# Altium integrated library TI Data Converters Analog to Digital Converter.IntLib: 2197 symbols (part 30 of 168)
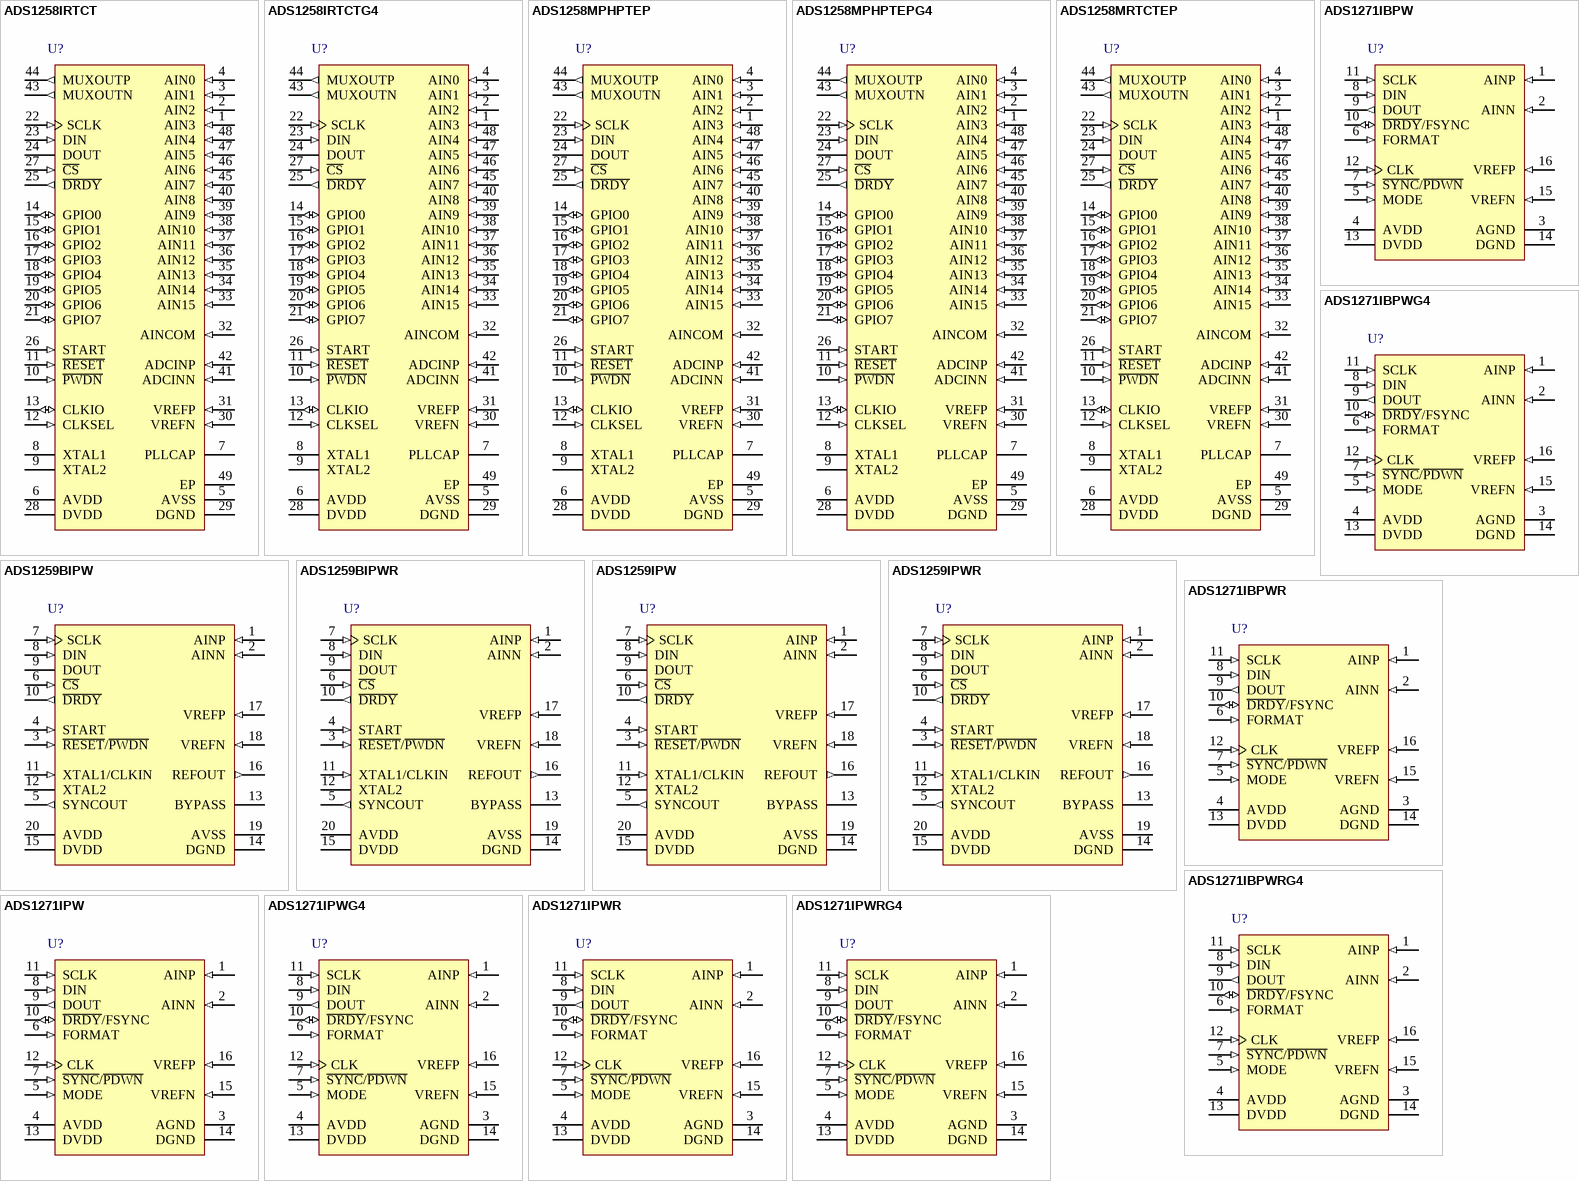
[diagram p155: symbols ADS1258IRTCT to ADS1271IPWRG4]

## ADS1258IRTCT
designator U?
24-Bit, Fast Channel Cycling Delta-Sigma ADC, -40 to 105 degC, 48-pin QFN (RTC48), Green (RoHS & no Sb/Br); Manufacturer: Texas Instruments; PartNumber: ADS1258IRTCT; # Input Channels: 16; Analog Voltage AV/DD(Max)(V): 5.25; Analog Voltage AV/DD(Min)(V): 4.75; Digital Supply(Min)(V): 2.7; ENOB(Bits): 21.6; Interface: Serial SPI; Resolution(Bits): 24; Sample Rate (max)(SPS): 125k; SubFamily: Precision ADC (<=10MSPS); DatasheetVersion: SBAS297G; PackageVersion: 4205143/D, 05/2011; PackageReference: RTC48-5100X5100TP; PackageDescription: 48-Pin Plastic Quad Flatpack No-Lead, Body 7 x 7 mm, Pitch 0.5 mm; Supplier 1: Digi-Key; Supplier Part Number 1: TLC3548CPWR-ND; Supplier 2: Mouser; Supplier Part Number 2: 595-TLC3548CPWR; Architecture: Delta-Sigma; Digital Supply(Max)(V): 5.25; Eco-Plan: Green (RoHS & no Sb/Br); Mounting Technology: Surface Mount; ComponentLink1Description: Manufacturer URL; ComponentLink1URL: http://www.ti.com/; ComponentLink2Description: Datasheet; ComponentLink2URL: http://www.ti.com/general/docs/lit/getliterature.tsp?genericPartNumber=ADS1258&fileType=pdf; ComponentLink3Description: Package Specification; ComponentLink3URL: http://www.ti.com/litv/pdf/mpqf140c
footprint TI-RTC48-5100X5100TP_V (QFN, 48-Leads, Body 7x7mm, Pitch 0.5mm, Thermal Pad 5.1x5.1mm, TI Recommended)
pins: 1 AIN3 (in) "Analog Input 3: Single-Ended Channel 3, Differential Channel 1 (-)", 2 AIN2 (in) "Analog Input 2: Single-Ended Channel 2, Differential Channel 1 (+)", 3 AIN1 (in) "Analog Input 1: Single-Ended Channel 1, Differential Channel 0 (-)", 4 AIN0 (in) "Analog Input 0: Single-Ended Channel 0, Differential Channel 0 (+)", 5 AVSS (power) "Negative Analog Power Supply: 0V for unipolar operation, -2.5V for bipolar operation. (Internally connected to exposed thermal pad of QFN package.)", 6 AVDD (power) "Positive Analog Power Supply: +5V for unipolar operation, +2.5V for bipolar operation.", 7 PLLCAP "PLL Bypass Capacitor: Connect 22nF capacitor to AVSS when using crystal oscillator.", 8 XTAL1 "32.768kHz Crystal Oscillator Input 1; see Crystal Oscillator section.", 9 XTAL2 "32.768kHz Crystal Oscillator Input 2; see Crystal Oscillator section.", 10 ~{PWDN} (in) "Power-Down Input: Hold low for minimum of two fCLK cycles to engage low-power mode.", 11 ~{RESET} (in) "Reset Input: Hold low for minimum of two fCLK cycles to reset the device.", 12 CLKSEL (in) "Clock Select Input: Low = Activates Crystal Oscillator, fCLK output on CLKIO. High = Disables Crystal Oscillator, apply fCLK to CLKIO.", 13 CLKIO (io) "System Clock Input/Output (See CLKSEL pin.)", 14 GPIO0 (io) "General-Purpose Digital Input/Output 0", 15 GPIO1 (io) "General-Purpose Digital Input/Output 1", 16 GPIO2 (io) "General-Purpose Digital Input/Output 2", 17 GPIO3 (io) "General-Purpose Digital Input/Output 3", 18 GPIO4 (io) "General-Purpose Digital Input/Output 4", 19 GPIO5 (io) "General-Purpose Digital Input/Output 5", 20 GPIO6 (io) "General-Purpose Digital Input/Output 6", 21 GPIO7 (io) "General-Purpose Digital Input/Output 7", 22 SCLK (in) "SPI Interface Clock Input: Data clocked in on rising edge, clocked out on falling edge.", 23 DIN (in) "SPI Interface Data Input: Data is input to the device.", 24 DOUT (hiz) "SPI Interface Data Output: Data is output from the device.", 25 ~{DRDY} (out) "Data Ready Output: Active low.", 26 START (in) "Start Conversion Input: Active high.", 27 ~{CS} (in) "SPI Interface Chip Select Input: Active low.", 28 DVDD (power) "Digital Power Supply: 2.7V to 5.25V", 29 DGND (power) "Digital Ground", 30 VREFN (in) "Reference Input Negative", 31 VREFP (in) "Reference Input Positive", 32 AINCOM (in) "Analog Input Common: Common input pin to all single-ended inputs.", 33 AIN15 (in) "Analog Input 15: Single-Ended Channel 15, Differential Channel 7 (-)", 34 AIN14 (in) "Analog Input 14: Single-Ended Channel 14, Differential Channel 7 (+)", 35 AIN13 (in) "Analog Input 13: Single-Ended Channel 13, Differential Channel 6 (-)", 36 AIN12 (in) "Analog Input 12: Single-Ended Channel 12, Differential Channel 6 (+)", 37 AIN11 (in) "Analog Input 11: Single-Ended Channel 11, Differential Channel 5 (-)", 38 AIN10 (in) "Analog Input 10: Single-Ended Channel 10, Differential Channel 5 (+)", 39 AIN9 (in) "Analog Input 9: Single-Ended Channel 9, Differential Channel 4 (-)", 40 AIN8 (in) "Analog Input 8: Single-Ended Channel 8, Differential Channel 4 (+)", 41 ADCINN (in) "ADC Differential Input (-)", 42 ADCINP (in) "ADC Differential Input (+)", 43 MUXOUTN (out) "Multiplexer Differential Output (-)", 44 MUXOUTP (out) "Multiplexer Differential Output (+)", 45 AIN7 (in) "Analog Input 7: Single-Ended Channel 7, Differential Channel 3 (-)", 46 AIN6 (in) "Analog Input 6 : Single-Ended Channel 6, Differential Channel 3 (+)", 47 AIN5 (in) "Analog Input 5: Single-Ended Channel 5, Differential Channel 2 (-)", 48 AIN4 (in) "Analog Input 4: Single-Ended Channel 4, Differential Channel 2 (+)", 49 EP (power) "Exposed Pad"

## ADS1258IRTCTG4
designator U?
24-Bit, Fast Channel Cycling Delta-Sigma ADC, -40 to 105 degC, 48-pin QFN (RTC48), Green (RoHS & no Sb/Br); Manufacturer: Texas Instruments; PartNumber: ADS1258IRTCTG4; # Input Channels: 16; Analog Voltage AV/DD(Max)(V): 5.25; Analog Voltage AV/DD(Min)(V): 4.75; Digital Supply(Min)(V): 2.7; ENOB(Bits): 21.6; Interface: Serial SPI; Resolution(Bits): 24; Sample Rate (max)(SPS): 125k; SubFamily: Precision ADC (<=10MSPS); DatasheetVersion: SBAS297G; PackageVersion: 4205143/D, 05/2011; PackageReference: RTC48-5100X5100TP; PackageDescription: 48-Pin Plastic Quad Flatpack No-Lead, Body 7 x 7 mm, Pitch 0.5 mm; Supplier 1: Digi-Key; Supplier Part Number 1: TLC3548CPWRG4-ND; Supplier 2: Mouser; Supplier Part Number 2: 595-TLC3548CPWRG4; Architecture: Delta-Sigma; Digital Supply(Max)(V): 5.25; Eco-Plan: Green (RoHS & no Sb/Br); Mounting Technology: Surface Mount; ComponentLink1Description: Manufacturer URL; ComponentLink1URL: http://www.ti.com/; ComponentLink2Description: Datasheet; ComponentLink2URL: http://www.ti.com/general/docs/lit/getliterature.tsp?genericPartNumber=ADS1258&fileType=pdf; ComponentLink3Description: Package Specification; ComponentLink3URL: http://www.ti.com/litv/pdf/mpqf140c
footprint TI-RTC48-5100X5100TP_V (QFN, 48-Leads, Body 7x7mm, Pitch 0.5mm, Thermal Pad 5.1x5.1mm, TI Recommended)
pins: 1 AIN3 (in) "Analog Input 3: Single-Ended Channel 3, Differential Channel 1 (-)", 2 AIN2 (in) "Analog Input 2: Single-Ended Channel 2, Differential Channel 1 (+)", 3 AIN1 (in) "Analog Input 1: Single-Ended Channel 1, Differential Channel 0 (-)", 4 AIN0 (in) "Analog Input 0: Single-Ended Channel 0, Differential Channel 0 (+)", 5 AVSS (power) "Negative Analog Power Supply: 0V for unipolar operation, -2.5V for bipolar operation. (Internally connected to exposed thermal pad of QFN package.)", 6 AVDD (power) "Positive Analog Power Supply: +5V for unipolar operation, +2.5V for bipolar operation.", 7 PLLCAP "PLL Bypass Capacitor: Connect 22nF capacitor to AVSS when using crystal oscillator.", 8 XTAL1 "32.768kHz Crystal Oscillator Input 1; see Crystal Oscillator section.", 9 XTAL2 "32.768kHz Crystal Oscillator Input 2; see Crystal Oscillator section.", 10 ~{PWDN} (in) "Power-Down Input: Hold low for minimum of two fCLK cycles to engage low-power mode.", 11 ~{RESET} (in) "Reset Input: Hold low for minimum of two fCLK cycles to reset the device.", 12 CLKSEL (in) "Clock Select Input: Low = Activates Crystal Oscillator, fCLK output on CLKIO. High = Disables Crystal Oscillator, apply fCLK to CLKIO.", 13 CLKIO (io) "System Clock Input/Output (See CLKSEL pin.)", 14 GPIO0 (io) "General-Purpose Digital Input/Output 0", 15 GPIO1 (io) "General-Purpose Digital Input/Output 1", 16 GPIO2 (io) "General-Purpose Digital Input/Output 2", 17 GPIO3 (io) "General-Purpose Digital Input/Output 3", 18 GPIO4 (io) "General-Purpose Digital Input/Output 4", 19 GPIO5 (io) "General-Purpose Digital Input/Output 5", 20 GPIO6 (io) "General-Purpose Digital Input/Output 6", 21 GPIO7 (io) "General-Purpose Digital Input/Output 7", 22 SCLK (in) "SPI Interface Clock Input: Data clocked in on rising edge, clocked out on falling edge.", 23 DIN (in) "SPI Interface Data Input: Data is input to the device.", 24 DOUT (hiz) "SPI Interface Data Output: Data is output from the device.", 25 ~{DRDY} (out) "Data Ready Output: Active low.", 26 START (in) "Start Conversion Input: Active high.", 27 ~{CS} (in) "SPI Interface Chip Select Input: Active low.", 28 DVDD (power) "Digital Power Supply: 2.7V to 5.25V", 29 DGND (power) "Digital Ground", 30 VREFN (in) "Reference Input Negative", 31 VREFP (in) "Reference Input Positive", 32 AINCOM (in) "Analog Input Common: Common input pin to all single-ended inputs.", 33 AIN15 (in) "Analog Input 15: Single-Ended Channel 15, Differential Channel 7 (-)", 34 AIN14 (in) "Analog Input 14: Single-Ended Channel 14, Differential Channel 7 (+)", 35 AIN13 (in) "Analog Input 13: Single-Ended Channel 13, Differential Channel 6 (-)", 36 AIN12 (in) "Analog Input 12: Single-Ended Channel 12, Differential Channel 6 (+)", 37 AIN11 (in) "Analog Input 11: Single-Ended Channel 11, Differential Channel 5 (-)", 38 AIN10 (in) "Analog Input 10: Single-Ended Channel 10, Differential Channel 5 (+)", 39 AIN9 (in) "Analog Input 9: Single-Ended Channel 9, Differential Channel 4 (-)", 40 AIN8 (in) "Analog Input 8: Single-Ended Channel 8, Differential Channel 4 (+)", 41 ADCINN (in) "ADC Differential Input (-)", 42 ADCINP (in) "ADC Differential Input (+)", 43 MUXOUTN (out) "Multiplexer Differential Output (-)", 44 MUXOUTP (out) "Multiplexer Differential Output (+)", 45 AIN7 (in) "Analog Input 7: Single-Ended Channel 7, Differential Channel 3 (-)", 46 AIN6 (in) "Analog Input 6 : Single-Ended Channel 6, Differential Channel 3 (+)", 47 AIN5 (in) "Analog Input 5: Single-Ended Channel 5, Differential Channel 2 (-)", 48 AIN4 (in) "Analog Input 4: Single-Ended Channel 4, Differential Channel 2 (+)", 49 EP (power) "Exposed Pad"

## ADS1258MPHPTEP
designator U?
Enhanced Product 16-Channel, 24-Bit ADC, -55 to 125 degC, 48-pin QFP (PHP48), Green (RoHS & no Sb/Br); Manufacturer: Texas Instruments; PartNumber: ADS1258MPHPTEP; # Input Channels: 16; Analog Voltage AV/DD(Max)(V): 5.25; Analog Voltage AV/DD(Min)(V): 4.75; Architecture: Delta-Sigma; Digital Supply(Min)(V): 2.7; Resolution(Bits): 24; Sample Rate (max)(SPS): 125k; SubFamily: Precision ADC (<=10MSPS); DatasheetVersion: SBAS445D; PackageVersion: 4146927/B, 08/2003; PackageReference: PHP48-4050X4050TP; PackageDescription: 48-Pin PowerPAD(TM) Plastic Quad Flatpack, Body 7 x 7 mm, Pitch 0.5 mm; Supplier 1: Digi-Key; Supplier Part Number 1: 296-10291-5-ND; Supplier 2: Mouser; Supplier Part Number 2: 595-TLC3548IPW; Digital Supply(Max)(V): 5.25; Eco-Plan: Green (RoHS & no Sb/Br); Mounting Technology: Surface Mount; Code_JEDEC: MS-026; ComponentLink1Description: Manufacturer URL; ComponentLink1URL: http://www.ti.com/; ComponentLink2Description: Datasheet; ComponentLink2URL: http://www.ti.com/general/docs/lit/getliterature.tsp?genericPartNumber=ADS1258-EP&fileType=pdf; ComponentLink3Description: Package Specification; ComponentLink3URL: http://www.ti.com/litv/pdf/mpqf051a
footprint TI-PHP48-4050X4050TP_N (QFP, 48-Leads, Body 7x7mm, Pitch 0.5mm, Thermal Pad 4.6x4.6mm, IPC Medium Density)
footprint TI-PHP48-4050X4050TP_L (QFP, 48-Leads, Body 7x7mm, Pitch 0.5mm, Thermal Pad 4.6x4.6mm, IPC High Density)
footprint TI-PHP48-4050X4050TP_M (QFP, 48-Leads, Body 7x7mm, Pitch 0.5mm, Thermal Pad 4.6x4.6mm, IPC Low Density)
pins: 1 AIN3 (in) "Analog Input 3: Single-Ended Channel 3, Differential Channel 1 (-)", 2 AIN2 (in) "Analog Input 2: Single-Ended Channel 2, Differential Channel 1 (+)", 3 AIN1 (in) "Analog Input 1: Single-Ended Channel 1, Differential Channel 0 (-)", 4 AIN0 (in) "Analog Input 0: Single-Ended Channel 0, Differential Channel 0 (+)", 5 AVSS (power) "Negative Analog Power Supply: 0V for unipolar operation, -2.5 V for bipolar operation. (Internally connected to exposed thermal pad of QFN package.)", 6 AVDD (power) "Positive Analog Power Supply: 5 V for unipolar operation, 2.5 V for bipolar operation.", 7 PLLCAP "PLL Bypass Capacitor: Connect 22nF capacitor to AVSS when using crystal oscillator.", 8 XTAL1 "32.768-kHz Crystal Oscillator Input 1; see the Chrystal Oscillator section.", 9 XTAL2 "32.768-kHz Crystal Oscillator Input 2; see the Chrystal Oscillator section.", 10 ~{PWDN} (in) "Power-Down Input: Hold low for minimum of two fCLK cycles to engage low-power mode.", 11 ~{RESET} (in) "Reset Input: Hold low for minimum of two fCLK cycles to reset the device.", 12 CLKSEL (in) "Clock Select Input: Low = Activates Crystal Oscillator, fCLK output on CLKIO. High = Disables Crystal Oscillator, apply fCLK to CLKIO.", 13 CLKIO (io) "System Clock Input/Output (See CLKSEL pin.)", 14 GPIO0 (io) "General-Purpose Digital Input/Output 0", 15 GPIO1 (io) "General-Purpose Digital Input/Output 1", 16 GPIO2 (io) "General-Purpose Digital Input/Output 2", 17 GPIO3 (io) "General-Purpose Digital Input/Output 3", 18 GPIO4 (io) "General-Purpose Digital Input/Output 4", 19 GPIO5 (io) "General-Purpose Digital Input/Output 5", 20 GPIO6 (io) "General-Purpose Digital Input/Output 6", 21 GPIO7 (io) "General-Purpose Digital Input/Output 7", 22 SCLK (in) "SPI Interface Clock Input: Data clocked in on rising edge, clocked out on falling edge.", 23 DIN (in) "SPI Interface Data Input: Data is input to the device.", 24 DOUT (hiz) "SPI Interface Data Output: Data is output from the device.", 25 ~{DRDY} (out) "Data Ready Output: Active low.", 26 START (in) "Start Conversion Input: Active high.", 27 ~{CS} (in) "SPI Interface Chip Select Input: Active low.", 28 DVDD (power) "Digital Power Supply: 2.7 V to 5.25 V", 29 DGND (power) "Digital Ground", 30 VREFN (in) "Reference Input Negative", 31 VREFP (in) "Reference Input Positive", 32 AINCOM (in) "Analog Input Common: Common input pin to all single-ended inputs.", 33 AIN15 (in) "Analog Input 15: Single-Ended Channel 15, Differential Channel 7 (-)", 34 AIN14 (in) "Analog Input 14: Single-Ended Channel 14, Differential Channel 7 (+)", 35 AIN13 (in) "Analog Input 13: Single-Ended Channel 13, Differential Channel 6 (-)", 36 AIN12 (in) "Analog Input 12: Single-Ended Channel 12, Differential Channel 6 (+)", 37 AIN11 (in) "Analog Input 11: Single-Ended Channel 11, Differential Channel 5 (-)", 38 AIN10 (in) "Analog Input 10: Single-Ended Channel 10, Differential Channel 5 (+)", 39 AIN9 (in) "Analog Input 9: Single-Ended Channel 9, Differential Channel 4 (-)", 40 AIN8 (in) "Analog Input 8: Single-Ended Channel 8, Differential Channel 4 (+)", 41 ADCINN (in) "ADC Differential Input (-)", 42 ADCINP (in) "ADC Differential Input (+)", 43 MUXOUTN (out) "Multiplexer Differential Output (-)", 44 MUXOUTP (out) "Multiplexer Differential Output (+)", 45 AIN7 (in) "Analog Input 7: Single-Ended Channel 7, Differential Channel 3 (-)", 46 AIN6 (in) "Analog Input 6 : Single-Ended Channel 6, Differential Channel 3 (+)", 47 AIN5 (in) "Analog Input 5: Single-Ended Channel 5, Differential Channel 2 (-)", 48 AIN4 (in) "Analog Input 4: Single-Ended Channel 4, Differential Channel 2 (+)", 49 EP (power)

## ADS1258MPHPTEPG4
designator U?
Enhanced Product 16-Channel, 24-Bit ADC, -55 to 125 degC, 48-pin QFP (PHP48), Green (RoHS & no Sb/Br); Manufacturer: Texas Instruments; PartNumber: ADS1258MPHPTEPG4; # Input Channels: 16; Analog Voltage AV/DD(Max)(V): 5.25; Analog Voltage AV/DD(Min)(V): 4.75; Architecture: Delta-Sigma; Digital Supply(Min)(V): 2.7; Resolution(Bits): 24; Sample Rate (max)(SPS): 125k; SubFamily: Precision ADC (<=10MSPS); DatasheetVersion: SBAS445D; PackageVersion: 4146927/B, 08/2003; PackageReference: PHP48-4050X4050TP; PackageDescription: 48-Pin PowerPAD(TM) Plastic Quad Flatpack, Body 7 x 7 mm, Pitch 0.5 mm; Supplier 1: Digi-Key; Supplier Part Number 1: TLC3548IPWG4-ND; Supplier 2: Mouser; Supplier Part Number 2: 595-TLC3548IPWG4; Digital Supply(Max)(V): 5.25; Eco-Plan: Green (RoHS & no Sb/Br); Mounting Technology: Surface Mount; Code_JEDEC: MS-026; ComponentLink1Description: Manufacturer URL; ComponentLink1URL: http://www.ti.com/; ComponentLink2Description: Datasheet; ComponentLink2URL: http://www.ti.com/general/docs/lit/getliterature.tsp?genericPartNumber=ADS1258-EP&fileType=pdf; ComponentLink3Description: Package Specification; ComponentLink3URL: http://www.ti.com/litv/pdf/mpqf051a
footprint TI-PHP48-4050X4050TP_N (QFP, 48-Leads, Body 7x7mm, Pitch 0.5mm, Thermal Pad 4.6x4.6mm, IPC Medium Density)
footprint TI-PHP48-4050X4050TP_L (QFP, 48-Leads, Body 7x7mm, Pitch 0.5mm, Thermal Pad 4.6x4.6mm, IPC High Density)
footprint TI-PHP48-4050X4050TP_M (QFP, 48-Leads, Body 7x7mm, Pitch 0.5mm, Thermal Pad 4.6x4.6mm, IPC Low Density)
pins: 1 AIN3 (in) "Analog Input 3: Single-Ended Channel 3, Differential Channel 1 (-)", 2 AIN2 (in) "Analog Input 2: Single-Ended Channel 2, Differential Channel 1 (+)", 3 AIN1 (in) "Analog Input 1: Single-Ended Channel 1, Differential Channel 0 (-)", 4 AIN0 (in) "Analog Input 0: Single-Ended Channel 0, Differential Channel 0 (+)", 5 AVSS (power) "Negative Analog Power Supply: 0V for unipolar operation, -2.5 V for bipolar operation. (Internally connected to exposed thermal pad of QFN package.)", 6 AVDD (power) "Positive Analog Power Supply: 5 V for unipolar operation, 2.5 V for bipolar operation.", 7 PLLCAP "PLL Bypass Capacitor: Connect 22nF capacitor to AVSS when using crystal oscillator.", 8 XTAL1 "32.768-kHz Crystal Oscillator Input 1; see the Chrystal Oscillator section.", 9 XTAL2 "32.768-kHz Crystal Oscillator Input 2; see the Chrystal Oscillator section.", 10 ~{PWDN} (in) "Power-Down Input: Hold low for minimum of two fCLK cycles to engage low-power mode.", 11 ~{RESET} (in) "Reset Input: Hold low for minimum of two fCLK cycles to reset the device.", 12 CLKSEL (in) "Clock Select Input: Low = Activates Crystal Oscillator, fCLK output on CLKIO. High = Disables Crystal Oscillator, apply fCLK to CLKIO.", 13 CLKIO (io) "System Clock Input/Output (See CLKSEL pin.)", 14 GPIO0 (io) "General-Purpose Digital Input/Output 0", 15 GPIO1 (io) "General-Purpose Digital Input/Output 1", 16 GPIO2 (io) "General-Purpose Digital Input/Output 2", 17 GPIO3 (io) "General-Purpose Digital Input/Output 3", 18 GPIO4 (io) "General-Purpose Digital Input/Output 4", 19 GPIO5 (io) "General-Purpose Digital Input/Output 5", 20 GPIO6 (io) "General-Purpose Digital Input/Output 6", 21 GPIO7 (io) "General-Purpose Digital Input/Output 7", 22 SCLK (in) "SPI Interface Clock Input: Data clocked in on rising edge, clocked out on falling edge.", 23 DIN (in) "SPI Interface Data Input: Data is input to the device.", 24 DOUT (hiz) "SPI Interface Data Output: Data is output from the device.", 25 ~{DRDY} (out) "Data Ready Output: Active low.", 26 START (in) "Start Conversion Input: Active high.", 27 ~{CS} (in) "SPI Interface Chip Select Input: Active low.", 28 DVDD (power) "Digital Power Supply: 2.7 V to 5.25 V", 29 DGND (power) "Digital Ground", 30 VREFN (in) "Reference Input Negative", 31 VREFP (in) "Reference Input Positive", 32 AINCOM (in) "Analog Input Common: Common input pin to all single-ended inputs.", 33 AIN15 (in) "Analog Input 15: Single-Ended Channel 15, Differential Channel 7 (-)", 34 AIN14 (in) "Analog Input 14: Single-Ended Channel 14, Differential Channel 7 (+)", 35 AIN13 (in) "Analog Input 13: Single-Ended Channel 13, Differential Channel 6 (-)", 36 AIN12 (in) "Analog Input 12: Single-Ended Channel 12, Differential Channel 6 (+)", 37 AIN11 (in) "Analog Input 11: Single-Ended Channel 11, Differential Channel 5 (-)", 38 AIN10 (in) "Analog Input 10: Single-Ended Channel 10, Differential Channel 5 (+)", 39 AIN9 (in) "Analog Input 9: Single-Ended Channel 9, Differential Channel 4 (-)", 40 AIN8 (in) "Analog Input 8: Single-Ended Channel 8, Differential Channel 4 (+)", 41 ADCINN (in) "ADC Differential Input (-)", 42 ADCINP (in) "ADC Differential Input (+)", 43 MUXOUTN (out) "Multiplexer Differential Output (-)", 44 MUXOUTP (out) "Multiplexer Differential Output (+)", 45 AIN7 (in) "Analog Input 7: Single-Ended Channel 7, Differential Channel 3 (-)", 46 AIN6 (in) "Analog Input 6 : Single-Ended Channel 6, Differential Channel 3 (+)", 47 AIN5 (in) "Analog Input 5: Single-Ended Channel 5, Differential Channel 2 (-)", 48 AIN4 (in) "Analog Input 4: Single-Ended Channel 4, Differential Channel 2 (+)", 49 EP (power)

## ADS1258MRTCTEP
designator U?
Enhanced Product 16-Channel, 24-Bit ADC, -55 to 125 degC, 48-pin QFN (RTC48), Green (RoHS & no Sb/Br); Manufacturer: Texas Instruments; PartNumber: ADS1258MRTCTEP; # Input Channels: 16; Analog Voltage AV/DD(Max)(V): 5.25; Analog Voltage AV/DD(Min)(V): 4.75; Architecture: Delta-Sigma; Digital Supply(Min)(V): 2.7; Resolution(Bits): 24; Sample Rate (max)(SPS): 125k; SubFamily: Precision ADC (<=10MSPS); DatasheetVersion: SBAS445D; PackageVersion: 4205143/D, 05/2011; PackageReference: RTC48-5100X5100TP; PackageDescription: 48-Pin Plastic Quad Flatpack No-Lead, Body 7 x 7 mm, Pitch 0.5 mm; Supplier 1: Digi-Key; Supplier Part Number 1: TLC3548IPWR-ND; Supplier 2: Mouser; Supplier Part Number 2: 595-TLC3548IPWR; Digital Supply(Max)(V): 5.25; Eco-Plan: Green (RoHS & no Sb/Br); Mounting Technology: Surface Mount; ComponentLink1Description: Manufacturer URL; ComponentLink1URL: http://www.ti.com/; ComponentLink2Description: Datasheet; ComponentLink2URL: http://www.ti.com/general/docs/lit/getliterature.tsp?genericPartNumber=ADS1258-EP&fileType=pdf; ComponentLink3Description: Package Specification; ComponentLink3URL: http://www.ti.com/litv/pdf/mpqf140c
footprint TI-RTC48-5100X5100TP_V (QFN, 48-Leads, Body 7x7mm, Pitch 0.5mm, Thermal Pad 5.1x5.1mm, TI Recommended)
pins: 1 AIN3 (in) "Analog Input 3: Single-Ended Channel 3, Differential Channel 1 (-)", 2 AIN2 (in) "Analog Input 2: Single-Ended Channel 2, Differential Channel 1 (+)", 3 AIN1 (in) "Analog Input 1: Single-Ended Channel 1, Differential Channel 0 (-)", 4 AIN0 (in) "Analog Input 0: Single-Ended Channel 0, Differential Channel 0 (+)", 5 AVSS (power) "Negative Analog Power Supply: 0V for unipolar operation, -2.5 V for bipolar operation. (Internally connected to exposed thermal pad of QFN package.)", 6 AVDD (power) "Positive Analog Power Supply: 5 V for unipolar operation, 2.5 V for bipolar operation.", 7 PLLCAP "PLL Bypass Capacitor: Connect 22nF capacitor to AVSS when using crystal oscillator.", 8 XTAL1 "32.768-kHz Crystal Oscillator Input 1; see the Chrystal Oscillator section.", 9 XTAL2 "32.768-kHz Crystal Oscillator Input 2; see the Chrystal Oscillator section.", 10 ~{PWDN} (in) "Power-Down Input: Hold low for minimum of two fCLK cycles to engage low-power mode.", 11 ~{RESET} (in) "Reset Input: Hold low for minimum of two fCLK cycles to reset the device.", 12 CLKSEL (in) "Clock Select Input: Low = Activates Crystal Oscillator, fCLK output on CLKIO. High = Disables Crystal Oscillator, apply fCLK to CLKIO.", 13 CLKIO (io) "System Clock Input/Output (See CLKSEL pin.)", 14 GPIO0 (io) "General-Purpose Digital Input/Output 0", 15 GPIO1 (io) "General-Purpose Digital Input/Output 1", 16 GPIO2 (io) "General-Purpose Digital Input/Output 2", 17 GPIO3 (io) "General-Purpose Digital Input/Output 3", 18 GPIO4 (io) "General-Purpose Digital Input/Output 4", 19 GPIO5 (io) "General-Purpose Digital Input/Output 5", 20 GPIO6 (io) "General-Purpose Digital Input/Output 6", 21 GPIO7 (io) "General-Purpose Digital Input/Output 7", 22 SCLK (in) "SPI Interface Clock Input: Data clocked in on rising edge, clocked out on falling edge.", 23 DIN (in) "SPI Interface Data Input: Data is input to the device.", 24 DOUT (hiz) "SPI Interface Data Output: Data is output from the device.", 25 ~{DRDY} (out) "Data Ready Output: Active low.", 26 START (in) "Start Conversion Input: Active high.", 27 ~{CS} (in) "SPI Interface Chip Select Input: Active low.", 28 DVDD (power) "Digital Power Supply: 2.7 V to 5.25 V", 29 DGND (power) "Digital Ground", 30 VREFN (in) "Reference Input Negative", 31 VREFP (in) "Reference Input Positive", 32 AINCOM (in) "Analog Input Common: Common input pin to all single-ended inputs.", 33 AIN15 (in) "Analog Input 15: Single-Ended Channel 15, Differential Channel 7 (-)", 34 AIN14 (in) "Analog Input 14: Single-Ended Channel 14, Differential Channel 7 (+)", 35 AIN13 (in) "Analog Input 13: Single-Ended Channel 13, Differential Channel 6 (-)", 36 AIN12 (in) "Analog Input 12: Single-Ended Channel 12, Differential Channel 6 (+)", 37 AIN11 (in) "Analog Input 11: Single-Ended Channel 11, Differential Channel 5 (-)", 38 AIN10 (in) "Analog Input 10: Single-Ended Channel 10, Differential Channel 5 (+)", 39 AIN9 (in) "Analog Input 9: Single-Ended Channel 9, Differential Channel 4 (-)", 40 AIN8 (in) "Analog Input 8: Single-Ended Channel 8, Differential Channel 4 (+)", 41 ADCINN (in) "ADC Differential Input (-)", 42 ADCINP (in) "ADC Differential Input (+)", 43 MUXOUTN (out) "Multiplexer Differential Output (-)", 44 MUXOUTP (out) "Multiplexer Differential Output (+)", 45 AIN7 (in) "Analog Input 7: Single-Ended Channel 7, Differential Channel 3 (-)", 46 AIN6 (in) "Analog Input 6 : Single-Ended Channel 6, Differential Channel 3 (+)", 47 AIN5 (in) "Analog Input 5: Single-Ended Channel 5, Differential Channel 2 (-)", 48 AIN4 (in) "Analog Input 4: Single-Ended Channel 4, Differential Channel 2 (+)", 49 EP (power)

## ADS1259BIPW
designator U?
Low-Noise, 14 kSPS, 24-Bit ADC, -40 to 105 degC, 20-pin SOP (PW20), Green (RoHS & no Sb/Br); Manufacturer: Texas Instruments; PartNumber: ADS1259BIPW; # Input Channels: 1; Analog Voltage AV/DD(Max)(V): 5.25; Analog Voltage AV/DD(Min)(V): 4.75; Architecture: Delta-Sigma; Digital Supply(Min)(V): 2.7; Interface: Serial SPI; Resolution(Bits): 24; Sample Rate (max)(SPS): 14.4K; SubFamily: Precision ADC (<=10MSPS); DatasheetVersion: SBAS424D; PackageVersion: 4040064-5/G, 02/2011; PackageReference: PW20; PackageDescription: 20-Pin Plastic Small Outline, Body 6.5 x 4.4 mm, Pitch 0.65 mm; Supplier 1: Digi-Key; Supplier Part Number 1: TLC3548IPWRG4-ND; Supplier 2: Mouser; Supplier Part Number 2: 595-TLC3548IPWRG4; Digital Supply(Max)(V): 5.25; Eco-Plan: Green (RoHS & no Sb/Br); Mounting Technology: Surface Mount; Code_JEDEC: MO-153; ComponentLink1Description: Manufacturer URL; ComponentLink1URL: http://www.ti.com/; ComponentLink2Description: Datasheet; ComponentLink2URL: http://www.ti.com/general/docs/lit/getliterature.tsp?genericPartNumber=ADS1259&fileType=pdf; ComponentLink3Description: Package Specification; ComponentLink3URL: http://www.ti.com.cn/cn/lit/ml/mpds362/mpds362.pdf
footprint TI-PW20_N (SOP, 20-Leads, Body 6.5x4.4mm, Pitch 0.65mm, IPC Medium Density)
footprint TI-PW20_L (SOP, 20-Leads, Body 6.5x4.4mm, Pitch 0.65mm, IPC High Density)
footprint TI-PW20_M (SOP, 20-Leads, Body 6.5x4.4mm, Pitch 0.65mm, IPC Low Density)
pins: 1 AINP (in) "Positive analog input", 2 AINN (in) "Negative analog input", 3 ~{RESET}/~{PWDN} (in), 4 START (in) "Start conversions, active high", 5 SYNCOUT (out) "Sync clock output (fCLK/8)", 6 ~{CS} (in) "SPI chip-select, active low", 7 SCLK (in) "SPI clock input", 8 DIN (in) "SPI data input", 9 DOUT (hiz) "SPI data output", 10 ~{DRDY} (out) "Data ready output, active low", 11 XTAL1/CLKIN (in), 12 XTAL2 "External crystal2, otherwise no connection", 13 BYPASS "Core voltage bypass", 14 DGND (power) "Digital ground", 15 DVDD (power) "Digital power supply", 16 REFOUT (out) "Positive reference output", 17 VREFP (in) "Positive reference input", 18 VREFN (in) "Negative reference input", 19 AVSS (power) "Negative analog power supply and negative reference output", 20 AVDD (power) "Positive analog power supply"

## ADS1259BIPWR
designator U?
Low-Noise, 14 kSPS, 24-Bit ADC, -40 to 105 degC, 20-pin SOP (PW20), Green (RoHS & no Sb/Br); Manufacturer: Texas Instruments; PartNumber: ADS1259BIPWR; # Input Channels: 1; Analog Voltage AV/DD(Max)(V): 5.25; Analog Voltage AV/DD(Min)(V): 4.75; Architecture: Delta-Sigma; Digital Supply(Min)(V): 2.7; Interface: Serial SPI; Resolution(Bits): 24; Sample Rate (max)(SPS): 14.4K; SubFamily: Precision ADC (<=10MSPS); DatasheetVersion: SBAS424D; PackageVersion: 4040064-5/G, 02/2011; PackageReference: PW20; PackageDescription: 20-Pin Plastic Small Outline, Body 6.5 x 4.4 mm, Pitch 0.65 mm; Supplier 1: Digi-Key; Supplier Part Number 1: 296-2988-5-ND; Supplier 2: Mouser; Supplier Part Number 2: 595-TLV571IPW; Digital Supply(Max)(V): 5.25; Eco-Plan: Green (RoHS & no Sb/Br); Mounting Technology: Surface Mount; Code_JEDEC: MO-153; ComponentLink1Description: Manufacturer URL; ComponentLink1URL: http://www.ti.com/; ComponentLink2Description: Datasheet; ComponentLink2URL: http://www.ti.com/general/docs/lit/getliterature.tsp?genericPartNumber=ADS1259&fileType=pdf; ComponentLink3Description: Package Specification; ComponentLink3URL: http://www.ti.com.cn/cn/lit/ml/mpds362/mpds362.pdf
footprint TI-PW20_N (SOP, 20-Leads, Body 6.5x4.4mm, Pitch 0.65mm, IPC Medium Density)
footprint TI-PW20_L (SOP, 20-Leads, Body 6.5x4.4mm, Pitch 0.65mm, IPC High Density)
footprint TI-PW20_M (SOP, 20-Leads, Body 6.5x4.4mm, Pitch 0.65mm, IPC Low Density)
pins: 1 AINP (in) "Positive analog input", 2 AINN (in) "Negative analog input", 3 ~{RESET}/~{PWDN} (in), 4 START (in) "Start conversions, active high", 5 SYNCOUT (out) "Sync clock output (fCLK/8)", 6 ~{CS} (in) "SPI chip-select, active low", 7 SCLK (in) "SPI clock input", 8 DIN (in) "SPI data input", 9 DOUT (hiz) "SPI data output", 10 ~{DRDY} (out) "Data ready output, active low", 11 XTAL1/CLKIN (in), 12 XTAL2 "External crystal2, otherwise no connection", 13 BYPASS "Core voltage bypass", 14 DGND (power) "Digital ground", 15 DVDD (power) "Digital power supply", 16 REFOUT (out) "Positive reference output", 17 VREFP (in) "Positive reference input", 18 VREFN (in) "Negative reference input", 19 AVSS (power) "Negative analog power supply and negative reference output", 20 AVDD (power) "Positive analog power supply"

## ADS1259IPW
designator U?
Low-Noise, 14 kSPS, 24-Bit ADC, -40 to 105 degC, 20-pin SOP (PW20), Green (RoHS & no Sb/Br); Manufacturer: Texas Instruments; PartNumber: ADS1259IPW; # Input Channels: 1; Analog Voltage AV/DD(Max)(V): 5.25; Analog Voltage AV/DD(Min)(V): 4.75; Architecture: Delta-Sigma; Digital Supply(Min)(V): 2.7; Interface: Serial SPI; Resolution(Bits): 24; Sample Rate (max)(SPS): 14.4K; SubFamily: Precision ADC (<=10MSPS); DatasheetVersion: SBAS424D; PackageVersion: 4040064-5/G, 02/2011; PackageReference: PW20; PackageDescription: 20-Pin Plastic Small Outline, Body 6.5 x 4.4 mm, Pitch 0.65 mm; Supplier 1: Digi-Key; Supplier Part Number 1: TLV571IPWG4-ND; Supplier 2: Mouser; Supplier Part Number 2: 595-TLV571IPWG4; Digital Supply(Max)(V): 5.25; Eco-Plan: Green (RoHS & no Sb/Br); Mounting Technology: Surface Mount; Code_JEDEC: MO-153; ComponentLink1Description: Manufacturer URL; ComponentLink1URL: http://www.ti.com/; ComponentLink2Description: Datasheet; ComponentLink2URL: http://www.ti.com/general/docs/lit/getliterature.tsp?genericPartNumber=ADS1259&fileType=pdf; ComponentLink3Description: Package Specification; ComponentLink3URL: http://www.ti.com.cn/cn/lit/ml/mpds362/mpds362.pdf
footprint TI-PW20_N (SOP, 20-Leads, Body 6.5x4.4mm, Pitch 0.65mm, IPC Medium Density)
footprint TI-PW20_L (SOP, 20-Leads, Body 6.5x4.4mm, Pitch 0.65mm, IPC High Density)
footprint TI-PW20_M (SOP, 20-Leads, Body 6.5x4.4mm, Pitch 0.65mm, IPC Low Density)
pins: 1 AINP (in) "Positive analog input", 2 AINN (in) "Negative analog input", 3 ~{RESET}/~{PWDN} (in), 4 START (in) "Start conversions, active high", 5 SYNCOUT (out) "Sync clock output (fCLK/8)", 6 ~{CS} (in) "SPI chip-select, active low", 7 SCLK (in) "SPI clock input", 8 DIN (in) "SPI data input", 9 DOUT (hiz) "SPI data output", 10 ~{DRDY} (out) "Data ready output, active low", 11 XTAL1/CLKIN (in), 12 XTAL2 "External crystal2, otherwise no connection", 13 BYPASS "Core voltage bypass", 14 DGND (power) "Digital ground", 15 DVDD (power) "Digital power supply", 16 REFOUT (out) "Positive reference output", 17 VREFP (in) "Positive reference input", 18 VREFN (in) "Negative reference input", 19 AVSS (power) "Negative analog power supply and negative reference output", 20 AVDD (power) "Positive analog power supply"

## ADS1259IPWR
designator U?
Low-Noise, 14 kSPS, 24-Bit ADC, -40 to 105 degC, 20-pin SOP (PW20), Green (RoHS & no Sb/Br); Manufacturer: Texas Instruments; PartNumber: ADS1259IPWR; # Input Channels: 1; Analog Voltage AV/DD(Max)(V): 5.25; Analog Voltage AV/DD(Min)(V): 4.75; Architecture: Delta-Sigma; Digital Supply(Min)(V): 2.7; Interface: Serial SPI; Resolution(Bits): 24; Sample Rate (max)(SPS): 14.4K; SubFamily: Precision ADC (<=10MSPS); DatasheetVersion: SBAS424D; PackageVersion: 4040064-5/G, 02/2011; PackageReference: PW20; PackageDescription: 20-Pin Plastic Small Outline, Body 6.5 x 4.4 mm, Pitch 0.65 mm; Supplier 1: Digi-Key; Supplier Part Number 1: ADS1205IRGER-ND; Supplier 2: Mouser; Supplier Part Number 2: 595-ADS1205IRGER; Digital Supply(Max)(V): 5.25; Eco-Plan: Green (RoHS & no Sb/Br); Mounting Technology: Surface Mount; Code_JEDEC: MO-153; ComponentLink1Description: Manufacturer URL; ComponentLink1URL: http://www.ti.com/; ComponentLink2Description: Datasheet; ComponentLink2URL: http://www.ti.com/general/docs/lit/getliterature.tsp?genericPartNumber=ADS1259&fileType=pdf; ComponentLink3Description: Package Specification; ComponentLink3URL: http://www.ti.com.cn/cn/lit/ml/mpds362/mpds362.pdf
footprint TI-PW20_N (SOP, 20-Leads, Body 6.5x4.4mm, Pitch 0.65mm, IPC Medium Density)
footprint TI-PW20_L (SOP, 20-Leads, Body 6.5x4.4mm, Pitch 0.65mm, IPC High Density)
footprint TI-PW20_M (SOP, 20-Leads, Body 6.5x4.4mm, Pitch 0.65mm, IPC Low Density)
pins: 1 AINP (in) "Positive analog input", 2 AINN (in) "Negative analog input", 3 ~{RESET}/~{PWDN} (in), 4 START (in) "Start conversions, active high", 5 SYNCOUT (out) "Sync clock output (fCLK/8)", 6 ~{CS} (in) "SPI chip-select, active low", 7 SCLK (in) "SPI clock input", 8 DIN (in) "SPI data input", 9 DOUT (hiz) "SPI data output", 10 ~{DRDY} (out) "Data ready output, active low", 11 XTAL1/CLKIN (in), 12 XTAL2 "External crystal2, otherwise no connection", 13 BYPASS "Core voltage bypass", 14 DGND (power) "Digital ground", 15 DVDD (power) "Digital power supply", 16 REFOUT (out) "Positive reference output", 17 VREFP (in) "Positive reference input", 18 VREFN (in) "Negative reference input", 19 AVSS (power) "Negative analog power supply and negative reference output", 20 AVDD (power) "Positive analog power supply"

## ADS1271IBPW
designator U?
24-Bit, 105 kSPS Industrial Delta-Sigma ADC, -40 to 105 degC, 16-pin SOP (PW16), Green (RoHS & no Sb/Br); Manufacturer: Texas Instruments; PartNumber: ADS1271IBPW; # Input Channels: 1; Analog Voltage AV/DD(Max)(V): 5.25; Analog Voltage AV/DD(Min)(V): 4.75; Digital Supply(Max)(V): 3.6; Digital Supply(Min)(V): 1.65; Interface: Serial SPI; Resolution(Bits): 24; Sample Rate (max)(SPS): 105k; SFDR(dB): 109; SubFamily: Precision ADC (<=10MSPS); DatasheetVersion: SBAS306F; PackageVersion: 4040064-4/G, 02/2011; PackageReference: PW16; PackageDescription: 16-Pin Plastic Small Outline, Body 5 x 4.4 mm, Pitch 0.65 mm; Supplier 1: Digi-Key; Supplier Part Number 1: ADS1205IRGERG4-ND; Supplier 2: Mouser; Supplier Part Number 2: 595-ADS1205IRGERG4; Architecture: Delta-Sigma; Eco-Plan: Green (RoHS & no Sb/Br); SNR(dB): 109; Mounting Technology: Surface Mount; Code_JEDEC: MO-153; ComponentLink1Description: Manufacturer URL; ComponentLink1URL: http://www.ti.com/; ComponentLink2Description: Datasheet; ComponentLink2URL: http://www.ti.com/general/docs/lit/getliterature.tsp?genericPartNumber=ADS1271&fileType=pdf; ComponentLink3Description: Package Specification; ComponentLink3URL: http://www.ti.com/lit/ml/mpds361/mpds361.pdf
footprint TI-PW16_N (SOP, 16-Leads, Body 5x4.4mm, Pitch 0.65mm, IPC Medium Density)
footprint TI-PW16_L (SOP, 16-Leads, Body 5x4.4mm, Pitch 0.65mm, IPC High Density)
footprint TI-PW16_M (SOP, 16-Leads, Body 5x4.4mm, Pitch 0.65mm, IPC Low Density)
pins: 1 AINP (in) "Positive analog input", 2 AINN (in) "Negative analog input", 3 AGND (power) "Analog ground", 4 AVDD (power) "Analog supply", 5 MODE (in) "MODE = 0: High-Speed mode;MODE = float: High-Resolution mode;MODE = 1: Low-Power mode", 6 FORMAT (in) "FORMAT = 0: SPI;FORMAT = float: Modulator output (ADS1271B only);FORMAT = 1: Frame-Sync", 7 ~{SYNC}/~{PDWN} (in) "Synchronize/Power-down input, active low", 8 DIN (in) "Data input for daisy-chain operation", 9 DOUT (out) "ADC data output, modulator output (modulator mode)", 10 ~{DRDY}/FSYNC (io) "If FORMAT = 0 (SPI), then pin 10 = D\R\D\Y\ output;If FORMAT = 1 (Frame-Sync), then pin 10 = FSYNC input", 11 SCLK (in) "Serial clock for ADC data retrieval, modulator clock output (modulator mode)", 12 CLK (in) "Master clock", 13 DVDD (power) "Digital supply", 14 DGND (power) "Digital ground", 15 VREFN (in) "Negative reference input", 16 VREFP (in) "Positive reference input"

## ADS1271IBPWG4
designator U?
24-Bit, 105 kSPS Industrial Delta-Sigma ADC, -40 to 105 degC, 16-pin SOP (PW16), Green (RoHS & no Sb/Br); Manufacturer: Texas Instruments; PartNumber: ADS1271IBPWG4; # Input Channels: 1; Analog Voltage AV/DD(Max)(V): 5.25; Analog Voltage AV/DD(Min)(V): 4.75; Digital Supply(Max)(V): 3.6; Digital Supply(Min)(V): 1.65; Interface: Serial SPI; Resolution(Bits): 24; Sample Rate (max)(SPS): 105k; SFDR(dB): 109; SubFamily: Precision ADC (<=10MSPS); DatasheetVersion: SBAS306F; PackageVersion: 4040064-4/G, 02/2011; PackageReference: PW16; PackageDescription: 16-Pin Plastic Small Outline, Body 5 x 4.4 mm, Pitch 0.65 mm; Supplier 1: Digi-Key; Supplier Part Number 1: 296-18193-2-ND; Supplier 2: Digi-Key; Supplier Part Number 2: 296-18193-1-ND; Supplier 3: Digi-Key; Supplier Part Number 3: 296-18193-6-ND; Supplier 4: Mouser; Supplier Part Number 4: 595-ADS1205IRGET; Architecture: Delta-Sigma; Eco-Plan: Green (RoHS & no Sb/Br); SNR(dB): 109; Mounting Technology: Surface Mount; Code_JEDEC: MO-153; ComponentLink1Description: Manufacturer URL; ComponentLink1URL: http://www.ti.com/; ComponentLink2Description: Datasheet; ComponentLink2URL: http://www.ti.com/general/docs/lit/getliterature.tsp?genericPartNumber=ADS1271&fileType=pdf; ComponentLink3Description: Package Specification; ComponentLink3URL: http://www.ti.com/lit/ml/mpds361/mpds361.pdf
footprint TI-PW16_N (SOP, 16-Leads, Body 5x4.4mm, Pitch 0.65mm, IPC Medium Density)
footprint TI-PW16_L (SOP, 16-Leads, Body 5x4.4mm, Pitch 0.65mm, IPC High Density)
footprint TI-PW16_M (SOP, 16-Leads, Body 5x4.4mm, Pitch 0.65mm, IPC Low Density)
pins: 1 AINP (in) "Positive analog input", 2 AINN (in) "Negative analog input", 3 AGND (power) "Analog ground", 4 AVDD (power) "Analog supply", 5 MODE (in) "MODE = 0: High-Speed mode;MODE = float: High-Resolution mode;MODE = 1: Low-Power mode", 6 FORMAT (in) "FORMAT = 0: SPI;FORMAT = float: Modulator output (ADS1271B only);FORMAT = 1: Frame-Sync", 7 ~{SYNC}/~{PDWN} (in) "Synchronize/Power-down input, active low", 8 DIN (in) "Data input for daisy-chain operation", 9 DOUT (out) "ADC data output, modulator output (modulator mode)", 10 ~{DRDY}/FSYNC (io) "If FORMAT = 0 (SPI), then pin 10 = D\R\D\Y\ output;If FORMAT = 1 (Frame-Sync), then pin 10 = FSYNC input", 11 SCLK (in) "Serial clock for ADC data retrieval, modulator clock output (modulator mode)", 12 CLK (in) "Master clock", 13 DVDD (power) "Digital supply", 14 DGND (power) "Digital ground", 15 VREFN (in) "Negative reference input", 16 VREFP (in) "Positive reference input"

## ADS1271IBPWR
designator U?
24-Bit, 105 kSPS Industrial Delta-Sigma ADC, -40 to 105 degC, 16-pin SOP (PW16), Green (RoHS & no Sb/Br); Manufacturer: Texas Instruments; PartNumber: ADS1271IBPWR; # Input Channels: 1; Analog Voltage AV/DD(Max)(V): 5.25; Analog Voltage AV/DD(Min)(V): 4.75; Digital Supply(Max)(V): 3.6; Digital Supply(Min)(V): 1.65; Interface: Serial SPI; Resolution(Bits): 24; Sample Rate (max)(SPS): 105k; SFDR(dB): 109; SubFamily: Precision ADC (<=10MSPS); DatasheetVersion: SBAS306F; PackageVersion: 4040064-4/G, 02/2011; PackageReference: PW16; PackageDescription: 16-Pin Plastic Small Outline, Body 5 x 4.4 mm, Pitch 0.65 mm; Supplier 1: Digi-Key; Supplier Part Number 1: ADS1205IRGETG4-ND; Supplier 2: Mouser; Supplier Part Number 2: 595-ADS1205IRGETG4; Architecture: Delta-Sigma; Eco-Plan: Green (RoHS & no Sb/Br); SNR(dB): 109; Mounting Technology: Surface Mount; Code_JEDEC: MO-153; ComponentLink1Description: Manufacturer URL; ComponentLink1URL: http://www.ti.com/; ComponentLink2Description: Datasheet; ComponentLink2URL: http://www.ti.com/general/docs/lit/getliterature.tsp?genericPartNumber=ADS1271&fileType=pdf; ComponentLink3Description: Package Specification; ComponentLink3URL: http://www.ti.com/lit/ml/mpds361/mpds361.pdf
footprint TI-PW16_N (SOP, 16-Leads, Body 5x4.4mm, Pitch 0.65mm, IPC Medium Density)
footprint TI-PW16_L (SOP, 16-Leads, Body 5x4.4mm, Pitch 0.65mm, IPC High Density)
footprint TI-PW16_M (SOP, 16-Leads, Body 5x4.4mm, Pitch 0.65mm, IPC Low Density)
pins: 1 AINP (in) "Positive analog input", 2 AINN (in) "Negative analog input", 3 AGND (power) "Analog ground", 4 AVDD (power) "Analog supply", 5 MODE (in) "MODE = 0: High-Speed mode;MODE = float: High-Resolution mode;MODE = 1: Low-Power mode", 6 FORMAT (in) "FORMAT = 0: SPI;FORMAT = float: Modulator output (ADS1271B only);FORMAT = 1: Frame-Sync", 7 ~{SYNC}/~{PDWN} (in) "Synchronize/Power-down input, active low", 8 DIN (in) "Data input for daisy-chain operation", 9 DOUT (out) "ADC data output, modulator output (modulator mode)", 10 ~{DRDY}/FSYNC (io) "If FORMAT = 0 (SPI), then pin 10 = D\R\D\Y\ output;If FORMAT = 1 (Frame-Sync), then pin 10 = FSYNC input", 11 SCLK (in) "Serial clock for ADC data retrieval, modulator clock output (modulator mode)", 12 CLK (in) "Master clock", 13 DVDD (power) "Digital supply", 14 DGND (power) "Digital ground", 15 VREFN (in) "Negative reference input", 16 VREFP (in) "Positive reference input"

## ADS1271IBPWRG4
designator U?
24-Bit, 105 kSPS Industrial Delta-Sigma ADC, -40 to 105 degC, 16-pin SOP (PW16), Green (RoHS & no Sb/Br); Manufacturer: Texas Instruments; PartNumber: ADS1271IBPWRG4; # Input Channels: 1; Analog Voltage AV/DD(Max)(V): 5.25; Analog Voltage AV/DD(Min)(V): 4.75; Digital Supply(Max)(V): 3.6; Digital Supply(Min)(V): 1.65; Interface: Serial SPI; Resolution(Bits): 24; Sample Rate (max)(SPS): 105k; SFDR(dB): 109; SubFamily: Precision ADC (<=10MSPS); DatasheetVersion: SBAS306F; PackageVersion: 4040064-4/G, 02/2011; PackageReference: PW16; PackageDescription: 16-Pin Plastic Small Outline, Body 5 x 4.4 mm, Pitch 0.65 mm; Supplier 1: Digi-Key; Supplier Part Number 1: 296-18676-5-ND; Supplier 2: Farnell; Supplier Part Number 2: 1407069; Supplier 3: Mouser; Supplier Part Number 3: 595-ADS8505IBDW; Architecture: Delta-Sigma; Eco-Plan: Green (RoHS & no Sb/Br); SNR(dB): 109; Mounting Technology: Surface Mount; Code_JEDEC: MO-153; ComponentLink1Description: Manufacturer URL; ComponentLink1URL: http://www.ti.com/; ComponentLink2Description: Datasheet; ComponentLink2URL: http://www.ti.com/general/docs/lit/getliterature.tsp?genericPartNumber=ADS1271&fileType=pdf; ComponentLink3Description: Package Specification; ComponentLink3URL: http://www.ti.com/lit/ml/mpds361/mpds361.pdf
footprint TI-PW16_N (SOP, 16-Leads, Body 5x4.4mm, Pitch 0.65mm, IPC Medium Density)
footprint TI-PW16_L (SOP, 16-Leads, Body 5x4.4mm, Pitch 0.65mm, IPC High Density)
footprint TI-PW16_M (SOP, 16-Leads, Body 5x4.4mm, Pitch 0.65mm, IPC Low Density)
pins: 1 AINP (in) "Positive analog input", 2 AINN (in) "Negative analog input", 3 AGND (power) "Analog ground", 4 AVDD (power) "Analog supply", 5 MODE (in) "MODE = 0: High-Speed mode;MODE = float: High-Resolution mode;MODE = 1: Low-Power mode", 6 FORMAT (in) "FORMAT = 0: SPI;FORMAT = float: Modulator output (ADS1271B only);FORMAT = 1: Frame-Sync", 7 ~{SYNC}/~{PDWN} (in) "Synchronize/Power-down input, active low", 8 DIN (in) "Data input for daisy-chain operation", 9 DOUT (out) "ADC data output, modulator output (modulator mode)", 10 ~{DRDY}/FSYNC (io) "If FORMAT = 0 (SPI), then pin 10 = D\R\D\Y\ output;If FORMAT = 1 (Frame-Sync), then pin 10 = FSYNC input", 11 SCLK (in) "Serial clock for ADC data retrieval, modulator clock output (modulator mode)", 12 CLK (in) "Master clock", 13 DVDD (power) "Digital supply", 14 DGND (power) "Digital ground", 15 VREFN (in) "Negative reference input", 16 VREFP (in) "Positive reference input"

## ADS1271IPW
designator U?
24-Bit, 105 kSPS Industrial Delta-Sigma ADC, -40 to 125 degC, 16-pin SOP (PW16), Green (RoHS & no Sb/Br); Manufacturer: Texas Instruments; PartNumber: ADS1271IPW; # Input Channels: 1; Analog Voltage AV/DD(Max)(V): 5.25; Analog Voltage AV/DD(Min)(V): 4.75; Digital Supply(Max)(V): 3.6; Digital Supply(Min)(V): 1.65; Interface: Serial SPI; Resolution(Bits): 24; Sample Rate (max)(SPS): 105k; SFDR(dB): 108; SNR(dB): 109; SubFamily: Precision ADC (<=10MSPS); DatasheetVersion: SBAS306F; PackageVersion: 4040064-4/G, 02/2011; PackageReference: PW16; PackageDescription: 16-Pin Plastic Small Outline, Body 5 x 4.4 mm, Pitch 0.65 mm; Supplier 1: Digi-Key; Supplier Part Number 1: ADS8505IBDWG4-ND; Supplier 2: Mouser; Supplier Part Number 2: 595-ADS8505IBDWG4; Architecture: Delta-Sigma; Eco-Plan: Green (RoHS & no Sb/Br); Mounting Technology: Surface Mount; Code_JEDEC: MO-153; ComponentLink1Description: Manufacturer URL; ComponentLink1URL: http://www.ti.com/; ComponentLink2Description: Datasheet; ComponentLink2URL: http://www.ti.com/general/docs/lit/getliterature.tsp?genericPartNumber=ADS1271&fileType=pdf; ComponentLink3Description: Package Specification; ComponentLink3URL: http://www.ti.com/lit/ml/mpds361/mpds361.pdf
footprint TI-PW16_N (SOP, 16-Leads, Body 5x4.4mm, Pitch 0.65mm, IPC Medium Density)
footprint TI-PW16_L (SOP, 16-Leads, Body 5x4.4mm, Pitch 0.65mm, IPC High Density)
footprint TI-PW16_M (SOP, 16-Leads, Body 5x4.4mm, Pitch 0.65mm, IPC Low Density)
pins: 1 AINP (in) "Positive analog input", 2 AINN (in) "Negative analog input", 3 AGND (power) "Analog ground", 4 AVDD (power) "Analog supply", 5 MODE (in) "MODE = 0: High-Speed mode;MODE = float: High-Resolution mode;MODE = 1: Low-Power mode", 6 FORMAT (in) "FORMAT = 0: SPI;FORMAT = float: Modulator output (ADS1271B only);FORMAT = 1: Frame-Sync", 7 ~{SYNC}/~{PDWN} (in) "Synchronize/Power-down input, active low", 8 DIN (in) "Data input for daisy-chain operation", 9 DOUT (out) "ADC data output, modulator output (modulator mode)", 10 ~{DRDY}/FSYNC (io) "If FORMAT = 0 (SPI), then pin 10 = D\R\D\Y\ output;If FORMAT = 1 (Frame-Sync), then pin 10 = FSYNC input", 11 SCLK (in) "Serial clock for ADC data retrieval, modulator clock output (modulator mode)", 12 CLK (in) "Master clock", 13 DVDD (power) "Digital supply", 14 DGND (power) "Digital ground", 15 VREFN (in) "Negative reference input", 16 VREFP (in) "Positive reference input"

## ADS1271IPWG4
designator U?
24-Bit, 105 kSPS Industrial Delta-Sigma ADC, -40 to 125 degC, 16-pin SOP (PW16), Green (RoHS & no Sb/Br); Manufacturer: Texas Instruments; PartNumber: ADS1271IPWG4; # Input Channels: 1; Analog Voltage AV/DD(Max)(V): 5.25; Analog Voltage AV/DD(Min)(V): 4.75; Digital Supply(Max)(V): 3.6; Digital Supply(Min)(V): 1.65; Interface: Serial SPI; Resolution(Bits): 24; Sample Rate (max)(SPS): 105k; SFDR(dB): 108; SNR(dB): 109; SubFamily: Precision ADC (<=10MSPS); DatasheetVersion: SBAS306F; PackageVersion: 4040064-4/G, 02/2011; PackageReference: PW16; PackageDescription: 16-Pin Plastic Small Outline, Body 5 x 4.4 mm, Pitch 0.65 mm; Supplier 1: Digi-Key; Supplier Part Number 1: ADS8505IBDWR-ND; Supplier 2: Mouser; Supplier Part Number 2: 595-ADS8505IBDWR; Architecture: Delta-Sigma; Eco-Plan: Green (RoHS & no Sb/Br); Mounting Technology: Surface Mount; Code_JEDEC: MO-153; ComponentLink1Description: Manufacturer URL; ComponentLink1URL: http://www.ti.com/; ComponentLink2Description: Datasheet; ComponentLink2URL: http://www.ti.com/general/docs/lit/getliterature.tsp?genericPartNumber=ADS1271&fileType=pdf; ComponentLink3Description: Package Specification; ComponentLink3URL: http://www.ti.com/lit/ml/mpds361/mpds361.pdf
footprint TI-PW16_N (SOP, 16-Leads, Body 5x4.4mm, Pitch 0.65mm, IPC Medium Density)
footprint TI-PW16_L (SOP, 16-Leads, Body 5x4.4mm, Pitch 0.65mm, IPC High Density)
footprint TI-PW16_M (SOP, 16-Leads, Body 5x4.4mm, Pitch 0.65mm, IPC Low Density)
pins: 1 AINP (in) "Positive analog input", 2 AINN (in) "Negative analog input", 3 AGND (power) "Analog ground", 4 AVDD (power) "Analog supply", 5 MODE (in) "MODE = 0: High-Speed mode;MODE = float: High-Resolution mode;MODE = 1: Low-Power mode", 6 FORMAT (in) "FORMAT = 0: SPI;FORMAT = float: Modulator output (ADS1271B only);FORMAT = 1: Frame-Sync", 7 ~{SYNC}/~{PDWN} (in) "Synchronize/Power-down input, active low", 8 DIN (in) "Data input for daisy-chain operation", 9 DOUT (out) "ADC data output, modulator output (modulator mode)", 10 ~{DRDY}/FSYNC (io) "If FORMAT = 0 (SPI), then pin 10 = D\R\D\Y\ output;If FORMAT = 1 (Frame-Sync), then pin 10 = FSYNC input", 11 SCLK (in) "Serial clock for ADC data retrieval, modulator clock output (modulator mode)", 12 CLK (in) "Master clock", 13 DVDD (power) "Digital supply", 14 DGND (power) "Digital ground", 15 VREFN (in) "Negative reference input", 16 VREFP (in) "Positive reference input"